# EAGLE library part 74*195 (library 74ttl-din)
4-bit parallel access SHIFT REGISTER
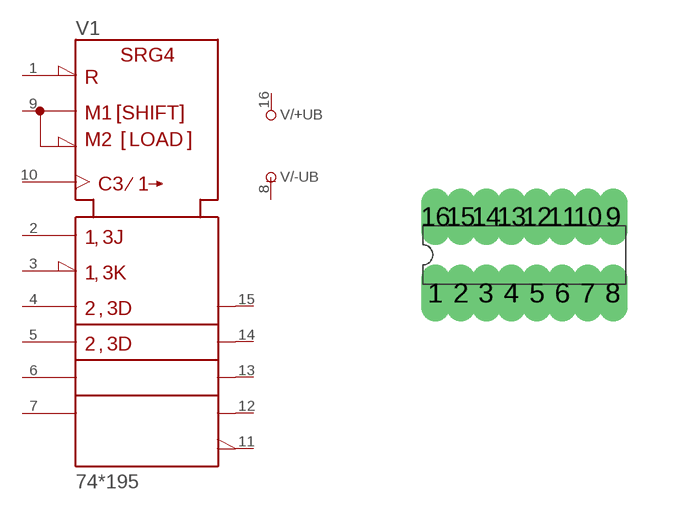
[diagram p64: symbol with the pads of DIL16; footprint DIL16]

Designator prefix V; gates /+UB=+UB /-UB=-UB 1=195

## 74195N  [DIL16]
1  1:!CLR  in
2  1:J  in
3  1:!K  in
4  1:A  in
5  1:B  in
6  1:C  in
7  1:D  in
8  /-UB:-UB  pwr
9  1:SH/!LD  in
10  1:CLK  in
11  1:!QD  out
12  1:QD  out
13  1:QC  out
14  1:QB  out
15  1:QA  out
16  /+UB:+UB  pwr

## Footprint DIL16 (pad centres in mm)
Dual In Line Package
drill 0.203 long: 1 -2.223,-0.953; 2 -1.587,-0.953; 3 -0.953,-0.953; 4 -0.318,-0.953; 5 0.318,-0.953; 6 0.953,-0.953; 7 1.587,-0.953; 8 2.223,-0.953; 9 2.223,0.953; 10 1.587,0.953; 11 0.953,0.953; 12 0.318,0.953; 13 -0.318,0.953; 14 -0.953,0.953; 15 -1.587,0.953; 16 -2.223,0.953